# EAGLE library part TPS63000 (library Tarun)
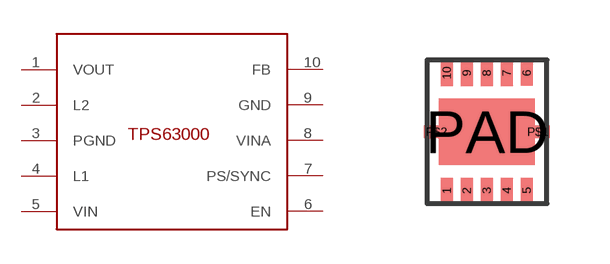
[diagram p0: symbol with the pads of SON10; footprint SON10]

Designator prefix -

## TPS63000  [SON10]
1  VOUT
2  L2
3  PGND
4  L1
5  VIN
6  EN
7  PS/SYNC
8  VINA
9  GND
10  FB

## Footprint SON10 (pad centres in mm)
smd 0.3 x 0.65: 1 -1,-1.475; 2 -0.5,-1.475; 3 0,-1.475; 4 0.5,-1.475; 5 1,-1.475; 6 1,1.475; 7 0.5,1.472; 8 0,1.472; 9 -0.5,1.472; 10 -1,1.472
smd 0.61 x 0.305: P$1 1.27,0; P$2 -1.27,0
smd 2.4 x 1.65: PAD 0,0